# Altium footprint library Внешний полётник.PcbLib: 1 footprints
Each footprint in its own frame and in the unit in brackets; x right, y up, seen from the top. Pads: shape width x height; smd on the part's side, far side on the other; paste and mask are expansions set on the pad; w line width, h text height; cw(c..) or ccw(c..) is an arc to the next point about the centre after c.
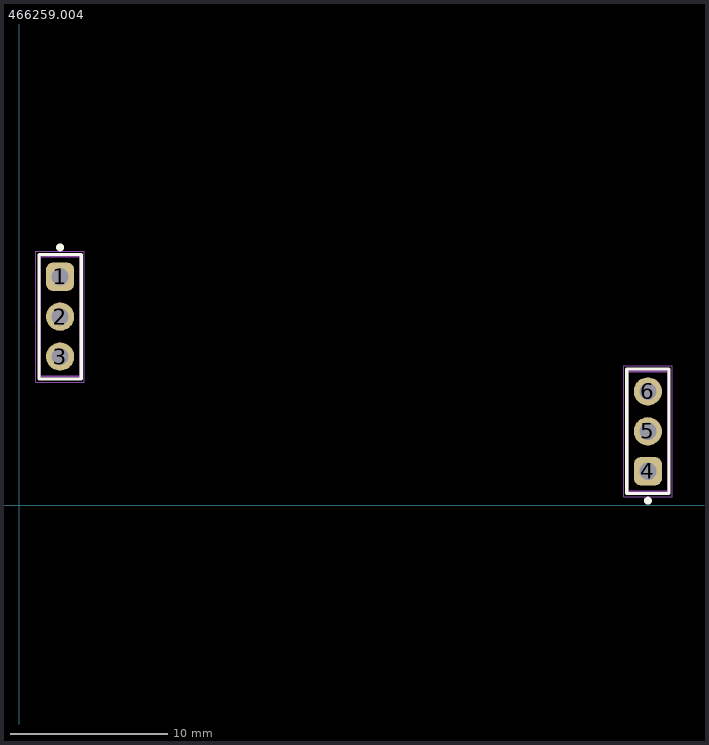
[diagram p0: the footprint, top view; thin cyan lines are the x and y axes]

## 466259.004 [mm] "Полётный контроллер 466259.004"
pads (6):
  rrect50% 1.8x1.8 hole 1.1: 1(2.6,14.54) 4(40,2.16)
  round 1.8 hole 1.1: 2(2.6,12) 3(2.6,9.46) 5(40,4.7) 6(40,7.24)
Top Overlay:
  circle w0.25: c2.6,16.41 r0.125
  circle w0.25: c40,0.29 r0.125
  lines w0.2: 1.255,8.04 3.945,8.04 3.945,15.96 1.255,15.96 1.255,8.04 ; 38.655,0.74 38.655,8.66 41.345,8.66 41.345,0.74 38.655,0.74
Top Component Outline:
  lines w0.1: 1.33,8.19 1.33,15.81 3.87,15.81 3.87,8.19 1.33,8.19 ; 38.73,0.89 38.73,8.51 41.27,8.51 41.27,0.89 38.73,0.89
Top Courtyard:
  lines w0.05: 1.055,7.84 4.145,7.84 4.145,16.16 1.055,16.16 1.055,7.84 ; 38.455,0.54 38.455,8.86 41.545,8.86 41.545,0.54 38.455,0.54
Top Component Center:
  lines w0.05: 2.1,12 3.1,12 ; 2.6,11.5 2.6,12.5 ; 39.5,4.7 40.5,4.7 ; 40,4.2 40,5.2
3D body "Плата основная v1.step": height 11.25, standoff 3.02, extent 0,0 42,31.507
3D body "61300311121.stp": height 8.57, standoff -2.97, extent 1.33,8.19 3.87,15.81
3D body "61300311121.stp": height 8.57, standoff -2.97, extent 38.73,0.89 41.27,8.51